# EAGLE library part DM3AT-SF-PEJM5 (library Jack-connectors)
Hirose DM3AT Push-Push (ejection mechanism), Top board mounting (Standard)
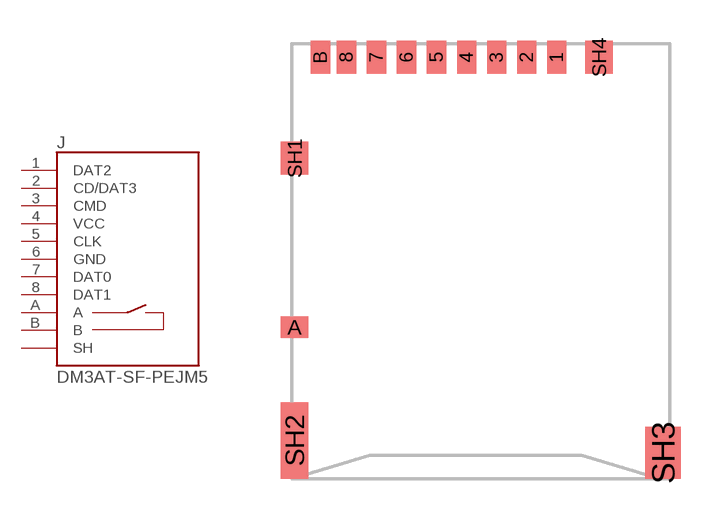
[diagram p8: symbol with the pads of DM3AT-SF-PEJM5; footprint DM3AT-SF-PEJM5]

Designator prefix J

## DM3AT-SF-PEJM5 (DESCRIPTION: Hirose Push-Push (ejection mechanism), Top board mounting (Standard) Micro SD memory card connector; PACK: DM3AT-SF-PEJM5)  [DM3AT-SF-PEJM5]
1  DAT2
2  CD/DAT3
3  CMD
4  VCC  pwr
5  CLK
6  GND  pwr
7  DAT0
8  DAT1
A  A  pas
B  B  pas
SH1  SH  pwr
SH2  SH  pwr
SH3  SH  pwr
SH4  SH  pwr

## Footprint DM3AT-SF-PEJM5 (pad centres in mm)
smd 0.7 x 1.2: 1 3.2,0; 2 2.1,0; 3 1,0; 4 -0.1,0; 5 -1.2,0; 6 -2.3,0; 7 -3.4,0; 8 -4.5,0; B -5.45,0
smd 1 x 0.8: A -6.4,-9.9
smd 1 x 1.2: SH1 -6.4,-3.7; SH4 4.75,0
smd 1 x 2.8: SH2 -6.4,-14.05
smd 1.3 x 1.9: SH3 7.1,-14.5